# Altium schematic symbol library Schlib3.SchLib: 1 symbol
Pins are listed as number, name and electrical type; pins without a type are passive.

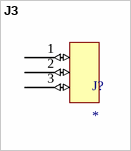
[diagram p0: symbol J3]

## J3
designator J?
footprint J3
pins: 1 (io), 2 (io), 3 (io)